# Altium footprint library connectors.PcbLib: 143 footprints (part 5 of 9)
Each footprint in its own frame and in the unit in brackets; x right, y up, seen from the top. Pads: shape width x height; smd on the part's side, far side on the other; paste and mask are expansions set on the pad; w line width, h text height; cw(c..) or ccw(c..) is an arc to the next point about the centre after c.
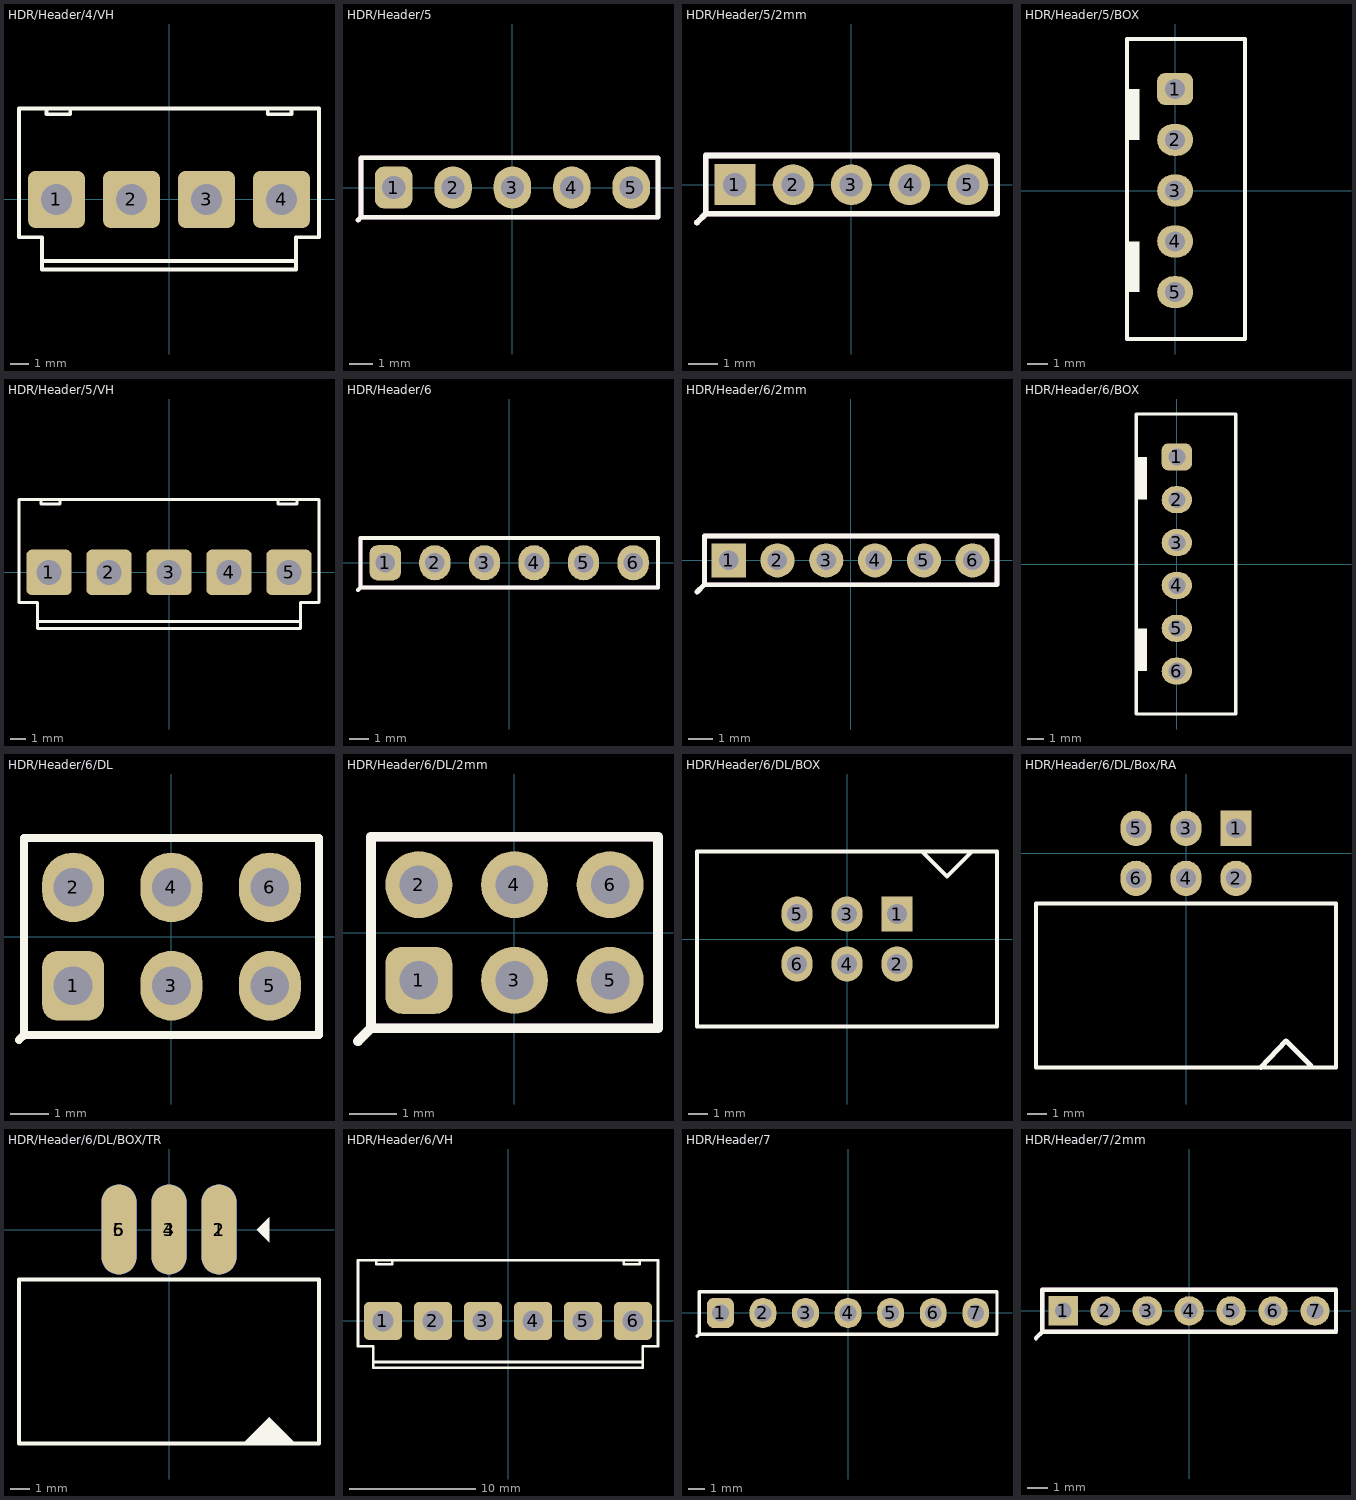
[diagram p4: the footprints below, top view; thin cyan lines are the x and y axes]

## HDR/Header/4/VH [mm]
pads (4):
  rrect25% 3x3 hole 1.65: 1(-5.94,0) 2(-1.98,0) 3(1.98,0) 4(5.94,0)
Top Overlay:
  lines w0.203: -6.71,-3.25 6.71,-3.25 ; -6.46,4.75 -6.46,4.5 -5.21,4.5 -5.21,4.8 ; 5.21,4.8 5.21,4.5 6.46,4.5 6.46,4.75 ; -7.92,-2 -6.71,-2 -6.71,-3.7 6.71,-3.7 6.71,-2 7.92,-2 7.92,4.8 -7.92,4.8 -7.92,-2
3D body "User Library-B4P-VH-R.STEP": height 10.9, standoff -3.7, extent -7.89,-3.75 7.89,4.75

## HDR/Header/5 [mm]
pads (5):
  rrect50% 1.6x1.8 hole 1: 1(-5.08,0)
  oval 1.6x1.8 hole 1: 2(-2.54,0) 3(0,0) 4(2.54,0) 5(5.08,0)
Top Overlay:
  lines w0.203: -6.604,-1.397 -6.477,-1.27 ; -6.477,-1.27 -6.477,1.27 6.223,1.27 6.223,-1.27 -6.477,-1.27
Mechanical 1:
  lines w0.203: -6.604,-1.397 -6.477,-1.27 ; -6.477,-1.27 -6.477,1.27 6.223,1.27 6.223,-1.27 -6.477,-1.27
3D body "Samtec Header 2pin 2.54mm.STEP": height 8.89, standoff -2.03, extent -6.35,-1.27 -1.27,1.27
3D body "Samtec Header 3pin 2.54mm.STEP": height 8.89, standoff -2.03, extent -1.27,-1.27 6.35,1.27

## HDR/Header/5/2mm [mm]
pads (5):
  rect 1.4x1.4 hole 0.8: 1(-4,0)
  round 1.4 hole 0.8: 2(-2,0) 3(0,0) 4(2,0) 5(4,0)
Top Overlay:
  lines w0.203: -5.3,-1.3 -5,-1 ; -5,-1 -5,1 5,1 5,-1 -5,-1
Mechanical 1:
  lines w0.203: -5.3,-1.3 -5,-1 ; -5,-1 -5,1 5,1 5,-1 -5,-1
3D body "pin_header_a-sl200-eg-g05d.stp": height 6, standoff -2.8, extent -4.975,-1 4.975,1

## HDR/Header/5/BOX [mm]
pads (5):
  rrect50% 1.8x1.6 hole 1: 1(0,5.08)
  oval 1.8x1.6 hole 1: 2(0,2.54) 3(0,0) 4(0,-2.54) 5(0,-5.08)
Top Overlay:
  rectangle: -2.413,-5.08 -1.778,-2.54
  rectangle: -2.413,2.54 -1.778,5.08
  lines w0.203: -2.413,-7.42 -2.413,7.58 3.5,7.58 3.5,-7.42 -2.413,-7.42
3D body "User Library-PW10-05-M white.step": height 7, standoff -3.3, extent -2.3,-7.42 3.4,7.58

## HDR/Header/5/VH [mm]
pads (5):
  rrect25% 3x3 hole 1.65: 1(-7.92,0) 2(-3.96,0) 3(0,0) 4(3.96,0) 5(7.92,0)
Top Overlay:
  lines w0.203: -8.69,-3.25 8.69,-3.25 ; -8.44,4.75 -8.44,4.5 -7.19,4.5 -7.19,4.8 ; 7.19,4.8 7.19,4.5 8.44,4.5 8.44,4.75 ; -9.9,-2 -9.9,4.8 9.9,4.8 9.9,-2 8.69,-2 8.69,-3.7 -8.69,-3.7 -8.69,-2 -9.9,-2
3D body "User Library-B5P-VH-R.STEP": height 10.9, standoff -3.7, extent -9.87,-3.75 9.87,4.75

## HDR/Header/6 [mm]
pads (6):
  rrect50% 1.6x1.8 hole 1: 1(-6.35,0)
  oval 1.6x1.8 hole 1: 2(-3.81,0) 3(-1.27,0) 4(1.27,0) 5(3.81,0) 6(6.35,0)
Top Overlay:
  lines w0.203: -7.747,-1.397 -7.62,-1.27 ; -7.62,-1.27 7.62,-1.27 7.62,1.27 -7.62,1.27 -7.62,-1.27
Mechanical 1:
  lines w0.203: -7.747,-1.397 -7.62,-1.27 ; -7.62,-1.27 7.62,-1.27 7.62,1.27 -7.62,1.27 -7.62,-1.27
3D body "Samtec Header 6pin 2.54mm.STEP": height 8.38, standoff -2.54, extent -7.62,-1.27 7.62,1.27

## HDR/Header/6/2mm [mm]
pads (6):
  rect 1.4x1.4 hole 0.8: 1(-5,0)
  round 1.4 hole 0.8: 2(-3,0) 3(-1,0) 4(1,0) 5(3,0) 6(5,0)
Top Overlay:
  lines w0.203: -6.3,-1.3 -6,-1 ; -6,-1 -6,1 6,1 6,-1 -6,-1
Mechanical 1:
  lines w0.203: -6.3,-1.3 -6,-1 ; -6,-1 -6,1 6,1 6,-1 -6,-1
3D body "pin_header_a-sl200-eg-g06d.stp": height 6, standoff -2.8, extent -5.975,-1 5.975,1

## HDR/Header/6/BOX [mm]
pads (6):
  rrect50% 1.8x1.6 hole 1: 1(0,6.35)
  oval 1.8x1.6 hole 1: 2(0,3.81) 3(0,1.27) 4(0,-1.27) 5(0,-3.81) 6(0,-6.35)
Top Overlay:
  rectangle: -2.413,3.81 -1.778,6.35
  rectangle: -2.413,-6.35 -1.778,-3.81
  lines w0.203: -2.413,-8.89 -2.413,8.89 3.5,8.89 3.5,-8.89 -2.413,-8.89
3D body "User Library-PW10-06-M white.step": height 7, standoff -3.3, extent -2.286,-8.75 3.414,8.75

## HDR/Header/6/DL [mm]
pads (6):
  rrect50% 1.6x1.8 hole 1: 1(-2.54,-1.27)
  oval 1.6x1.8 hole 1: 2(-2.54,1.27) 3(0,-1.27) 4(0,1.27) 5(2.54,-1.27) 6(2.54,1.27)
Top Overlay:
  lines w0.203: -3.937,-2.667 -3.81,-2.54 ; -3.81,-2.54 3.81,-2.54 3.81,2.54 -3.81,2.54 -3.81,-2.54
Mechanical 1:
  lines w0.203: -3.937,-2.667 -3.81,-2.54 ; -3.81,-2.54 3.81,-2.54 3.81,2.54 -3.81,2.54 -3.81,-2.54
3D body "Samtec Header 3pin 2.54mm.STEP": height 8.89, standoff -2.03, extent -3.81,-2.54 3.81,0
3D body "Samtec Header 3pin 2.54mm.STEP": height 8.89, standoff -2.03, extent -3.81,0 3.81,2.54

## HDR/Header/6/DL/2mm [mm]
pads (6):
  rrect50% 1.4x1.4 hole 0.8: 1(-2,-1)
  round 1.4 hole 0.8: 2(-2,1) 3(0,-1) 4(0,1) 5(2,-1) 6(2,1)
Top Overlay:
  lines w0.203: -3.27,-2.27 -3,-2 ; -3,-2 -3,2 3,2 3,-2 -3,-2
Mechanical 1:
  lines w0.203: -3.27,-2.27 -3,-2 ; -3,-2 -3,2 3,2 3,-2 -3,-2
3D body "pin_header_a-sl200-eg-g02d.stp": height 6, standoff -2.8, extent -3,-1.975 -1,1.975
3D body "pin_header_a-sl200-eg-g02d.stp": height 6, standoff -2.8, extent -1,-1.975 1,1.975
3D body "pin_header_a-sl200-eg-g02d.stp": height 6, standoff -2.8, extent 1,-1.975 3,1.975

## HDR/Header/6/DL/BOX [mm]
pads (6):
  rect 1.6x1.8 hole 1: 1(2.54,1.27)
  oval 1.6x1.8 hole 1: 2(2.54,-1.27) 3(0,1.27) 4(0,-1.27) 5(-2.54,1.27) 6(-2.54,-1.27)
Top Overlay:
  lines w0.203: 3.81,4.445 5.08,3.175 6.35,4.445 ; -7.62,-4.445 7.62,-4.445 7.62,4.445 -7.62,4.445 -7.62,-4.445
3D body "User Library-Header2x3-shrouded-vertical.step": height 9.1, standoff -3.1, extent -7.62,-4.975 7.62,4.475

## HDR/Header/6/DL/Box/RA [mm]
pads (6):
  rect 1.6x1.8 hole 1: 1(2.54,1.27)
  oval 1.6x1.8 hole 1: 2(2.54,-1.27) 3(0,1.27) 4(0,-1.27) 5(-2.54,1.27) 6(-2.54,-1.27)
Top Overlay:
  lines w0.203: -7.62,-10.869 7.62,-10.869 7.62,-2.54 -7.62,-2.54 -7.62,-10.869
  lines w0.254: 3.81,-10.869 5.08,-9.525 6.35,-10.795
3D body "IDC connector angled solder 6-pin M.stp": height 9.28, standoff -3.12, extent -7.62,-10.869 7.62,1.651

## HDR/Header/6/DL/BOX/TR [mil]
pads (6):
  oval 70x180 smd: 1(100,0) 3(0,0) 5(-100,0)
  oval 70x180 smd far side: 2(100,0) 4(0,0) 6(-100,0)
Top Overlay:
  region: 150,-425 200,-375 250,-425
  region: 175,0 200,25 200,-25
  lines w8: -300,-427.91 -300,-100 300,-100 300,-427.91 -300,-427.91
3D body "User Library-Header2x3-shrouded-vertical.step": height 176.18, standoff -195.87, extent -300,-425 300,55.32

## HDR/Header/6/VH [mm]
pads (6):
  rrect25% 3x3 hole 1.65: 1(-9.9,0) 2(-5.94,0) 3(-1.98,0) 4(1.98,0) 5(5.94,0) 6(9.9,0)
Top Overlay:
  lines w0.203: -10.67,-3.25 10.67,-3.25 ; -10.42,4.75 -10.42,4.5 -9.17,4.5 -9.17,4.8 ; 9.17,4.8 9.17,4.5 10.42,4.5 10.42,4.75 ; -11.88,-2 -10.67,-2 -10.67,-3.7 10.67,-3.7 10.67,-2 11.88,-2 11.88,4.8 -11.88,4.8 -11.88,-2
3D body "User Library-B5P-VH-R.STEP": height 10.9, standoff -3.7, extent -7.89,-3.75 11.85,4.75
3D body "User Library-B5P-VH-R.STEP": height 10.9, standoff -3.7, extent -11.85,-3.75 7.89,4.75

## HDR/Header/7 [mm]
pads (7):
  rrect50% 1.6x1.8 hole 1: 1(-7.62,0)
  oval 1.6x1.8 hole 1: 2(-5.08,0) 3(-2.54,0) 4(0,0) 5(2.54,0) 6(5.08,0) 7(7.62,0)
Top Overlay:
  lines w0.203: -9.017,-1.397 -8.89,-1.27 ; -8.89,-1.27 8.89,-1.27 8.89,1.27 -8.89,1.27 -8.89,-1.27
3D body "Samtec Header 3pin 2.54mm.STEP": height 8.89, standoff -2.03, extent -8.89,-1.27 -1.27,1.27
3D body "Samtec Header 4pin 2.54mm.STEP": height 8.89, standoff -2.03, extent -1.27,-1.27 8.89,1.27

## HDR/Header/7/2mm [mm]
pads (7):
  rect 1.4x1.4 hole 0.8: 1(-6,0)
  round 1.4 hole 0.8: 2(-4,0) 3(-2,0) 4(0,0) 5(2,0) 6(4,0) 7(6,0)
Top Overlay:
  lines w0.203: -7.3,-1.3 -7,-1 ; -7,-1 7,-1 7,1 -7,1 -7,-1
Mechanical 1:
  lines w0.203: -7.3,-1.3 -7,-1 ; -7,-1 7,-1 7,1 -7,1 -7,-1
3D body "pin_header_a-sl200-eg-g07d.stp": height 6, standoff -2.8, extent -6.975,-1 6.975,1